# EAGLE library part 691416600006 (library Wurth_Connectors_WR-TBL Spring Clamp)
WR-TBL Serie 4166 - 10.16 mm Screwless Vertical Entry KIND PROPERTIES Pitch 10.16 mm MATERIAL PROPERTIES Insulator Material PA66 Insulator Flammability Rating UL94 V-0 Contact Material INOX Steel Wire Guard Material Copper Alloy GENERAL INFORMATION Operating Temperature -30 up to +120 °C Compliance RoHS ELECTRICAL PROPERTIES IR UL 10 A IR VDE 16 A Working Voltage [UL] 300 V (AC) Working Voltage [VDE] 750 V (AC) Withstanding Voltage [UL] 1600 V (AC) Withstanding Voltage [VDE] 3000 V (AC) Contact Resistance [UL] 20 mΩ Contact Resistance [VDE] 20 mΩ Mechanical Properties Wire Strip Length 7 Wire Properties Solid Wire Section (AWG) 16 to 30 (AWG) Solid Wire Section (Metric) 1.31 to 0.0509 (mm²) Stranded Wire Section (AWG) 16 to 30 (AWG) Stranded Wire Section (Metric) 1.31 to 0.0509 (mm²) CERTIFICATION cULus Approval E315414 VDE Approval 40023402 Packaging Properties Packaging Box <https://www.we-online.com/catalog/media/o60621v209%20Family_TBL_10_16_4166_SCREWLESS_VERTICAL_ENTRY_6914166000xx.jpg> Details see: https://www.we-online.com/catalog/en/TBL_10_16_4166_SCREWLESS_VERTICAL_ENTRY_6914166000xx/ Updated by Ella Wu 2019-12-31 2019(C) Wurth Elektronik
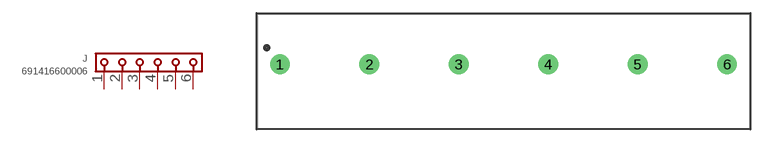
[diagram p115: symbol with the pads of 691416600006; footprint 691416600006]

Designator prefix J

## 691416600006 (DATASHEET-URL: https://www.we-online.com/redexpert/spec/691416600006?ae; IR-UL: 10A; IR-VDE: 10A; MOUNT: THT; PART-NUMBER: 691416600006; PINS: 6; PITCH: 10.16mm; TYPE: Vertical; VALUE: 691416600006; WIRE: 16 to 30 (AWG) 1.31 to 0.0509 (mm²); WORKING-VOLTAGE-UL: 300V (AC); WORKING-VOLTAGE-VDE: 750V (AC))  [691416600006]
1  1  pas
2  2  pas
3  3  pas
4  4  pas
5  5  pas
6  6  pas

## Footprint 691416600006 (pad centres in mm)
WR-TBL Serie 4166 - 10.16 mm Screwless Vertical Entry Max Height = 12.5mm , Pitch 10.16mm , 6pins
drill 1.5: 1 -25.4,0; 2 -15.24,0; 3 -5.08,0; 4 5.08,0; 5 15.24,0; 6 25.4,0